# Altium footprint library BME680.PcbLib: 3 footprints
Each footprint in its own frame and in the unit in brackets; x right, y up, seen from the top. Pads: shape width x height; smd on the part's side, far side on the other; paste and mask are expansions set on the pad; w line width, h text height; cw(c..) or ccw(c..) is an arc to the next point about the centre after c.
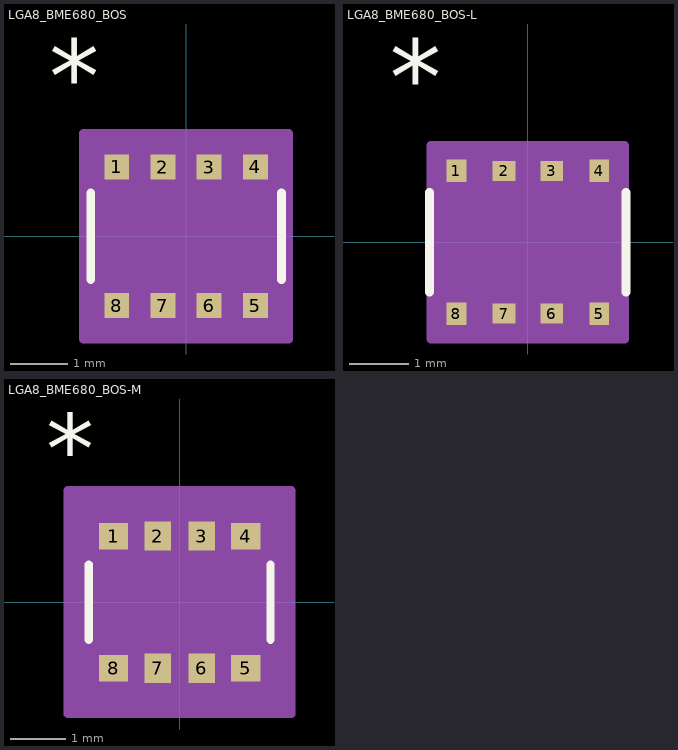
[diagram p0: the footprints below, top view; thin cyan lines are the x and y axes]

## LGA8_BME680_BOS [mil]
pads (8):
  rect 17x17 smd paste+0 mask+0: 1(-47.21,47.24) 2(-15.75,47.21) 3(15.75,47.21) 4(47.21,47.24) 5(47.21,-47.24) 6(15.75,-47.21) 7(-15.75,-47.21) 8(-47.21,-47.24)
Top Overlay:
  lines w6: -65,-29.51 -65,29.51 ; 65,-29.51 65,29.51
  text "*" at -93.21,84.49 h50
  text ".Designator" at -137.5,-25 h50
Mechanical 13:
  lines w1: -60,10 -10,60 ; -60,-60 60,-60 60,60 -60,60 -60,-60
  text ".Designator" at -137.5,-25 h50
  text "*" at -51.21,84.49 h50
Mechanical 15:
  region: -34.25,-70 -70,-70 -70,-65.74 -70,65.74 -70,70 -34.25,70 34.25,70 70,70 70,65.74 70,-65.74 70,-70 34.25,-70
  lines w6: -70,-65.74 -70,-70 -34.25,-70 ; -70,-65.74 -70,-65.74 ; -70,-65.74 -70,65.74 ; -70,65.74 -70,65.74 ; -70,65.74 -70,70 -34.25,70 ; -34.25,-70 -34.25,-70 ; -34.25,-70 34.25,-70 ; -34.25,70 -34.25,70 ; -34.25,70 34.25,70 ; 34.25,-70 34.25,-70 ; 34.25,-70 70,-70 70,-65.74 ; 34.25,70 34.25,70 ; 34.25,70 70,70 70,65.74 ; 70,-65.74 70,-65.74 ; 70,-65.74 70,65.74 ; 70,65.74 70,65.74
3D body "LGA8_BME680_BOS.step": height 39.49, standoff 0, extent -60,-60 60,60

## LGA8_BME680_BOS-L [mm]
pads (8):
  rect 0.332x0.382 smd paste+0 mask+0: 1(-1.199,1.2) 4(1.199,1.2) 5(1.199,-1.2) 8(-1.199,-1.2)
  rect 0.382x0.332 smd paste+0 mask+0: 2(-0.4,1.199) 3(0.4,1.199) 6(0.4,-1.199) 7(-0.4,-1.199)
Top Overlay:
  lines w0.152: -1.651,-0.839 -1.651,0.839 ; 1.651,-0.839 1.651,0.839
  text "*" at -2.317,2.146 h1.27
  text ".Designator" at -3.492,-0.635 h1.27
Mechanical 13:
  lines w0.025: -1.524,0.254 -0.254,1.524 ; -1.524,-1.524 1.524,-1.524 1.524,1.524 -1.524,1.524 -1.524,-1.524
  text ".Designator" at -3.492,-0.635 h1.27
  text "*" at -1.351,2.146 h1.27
Mechanical 15:
  region: -0.717,-1.626 -1.626,-1.626 -1.626,-1.518 -1.626,1.518 -1.626,1.626 -0.717,1.626 0.717,1.626 1.626,1.626 1.626,1.518 1.626,-1.518 1.626,-1.626 0.717,-1.626
  lines w0.152: -1.626,-1.518 -1.626,-1.626 -0.717,-1.626 ; -1.626,-1.518 -1.626,-1.518 ; -1.626,-1.518 -1.626,1.518 ; -1.626,1.518 -1.626,1.518 ; -1.626,1.518 -1.626,1.626 -0.717,1.626 ; -0.717,-1.626 -0.717,-1.626 ; -0.717,-1.626 0.717,-1.626 ; -0.717,1.626 -0.717,1.626 ; -0.717,1.626 0.717,1.626 ; 0.717,-1.626 0.717,-1.626 ; 0.717,-1.626 1.626,-1.626 1.626,-1.518 ; 0.717,1.626 0.717,1.626 ; 0.717,1.626 1.626,1.626 1.626,1.518 ; 1.626,-1.518 1.626,-1.518 ; 1.626,-1.518 1.626,1.518 ; 1.626,1.518 1.626,1.518
3D body "LGA8_BME680_BOS.step": height 1, standoff 0, extent -1.524,-1.524 1.524,1.524

## LGA8_BME680_BOS-M [mm]
pads (8):
  rect 0.532x0.482 smd paste+0 mask+0: 1(-1.199,1.2) 4(1.199,1.2) 5(1.199,-1.2) 8(-1.199,-1.2)
  rect 0.482x0.532 smd paste+0 mask+0: 2(-0.4,1.199) 3(0.4,1.199) 6(0.4,-1.199) 7(-0.4,-1.199)
Top Overlay:
  lines w0.152: -1.651,-0.683 -1.651,0.683 ; 1.651,-0.683 1.651,0.683
  text "*" at -2.418,2.146 h1.27
  text ".Designator" at -3.492,-0.635 h1.27
Mechanical 13:
  lines w0.025: -1.524,0.254 -0.254,1.524 ; -1.524,-1.524 1.524,-1.524 1.524,1.524 -1.524,1.524 -1.524,-1.524
  text ".Designator" at -3.492,-0.635 h1.27
  text "*" at -1.251,2.146 h1.27
Mechanical 15:
  region: -1.124,-2.032 -2.032,-2.032 -2.032,-1.924 -2.032,1.924 -2.032,2.032 -1.124,2.032 1.124,2.032 2.032,2.032 2.032,1.924 2.032,-1.924 2.032,-2.032 1.124,-2.032
  lines w0.152: -2.032,-1.924 -2.032,-2.032 -1.124,-2.032 ; -2.032,-1.924 -2.032,-1.924 ; -2.032,-1.924 -2.032,1.924 ; -2.032,1.924 -2.032,1.924 ; -2.032,1.924 -2.032,2.032 -1.124,2.032 ; -1.124,-2.032 -1.124,-2.032 ; -1.124,-2.032 1.124,-2.032 ; -1.124,2.032 -1.124,2.032 ; -1.124,2.032 1.124,2.032 ; 1.124,-2.032 1.124,-2.032 ; 1.124,-2.032 2.032,-2.032 2.032,-1.924 ; 1.124,2.032 1.124,2.032 ; 1.124,2.032 2.032,2.032 2.032,1.924 ; 2.032,-1.924 2.032,-1.924 ; 2.032,-1.924 2.032,1.924 ; 2.032,1.924 2.032,1.924
3D body "LGA8_BME680_BOS.step": height 1, standoff 0, extent -1.524,-1.524 1.524,1.524